# Altium schematic symbol library RFID_RC552.SchLib: 1 symbol
Pins are listed as number, name and electrical type; pins without a type are passive.

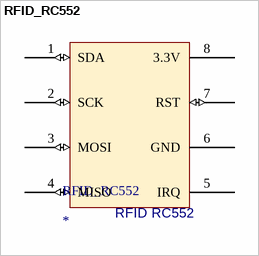
[diagram p0: symbol RFID_RC552]

## RFID_RC552
designator RFID_RC552  (mechanical)
footprint RFID RC552 (8 pin module)
pins: 1 SDA (io), 2 SCK (io), 3 MOSI (io), 4 MISO (io), 5 IRQ, 6 GND (power), 7 RST (io), 8 3.3V (power)
text: RFID RC552